# EAGLE library part MM74HC595M (library Fairchild_By_element14_Batch_1)
8-BIT SHIFT REGISTERS
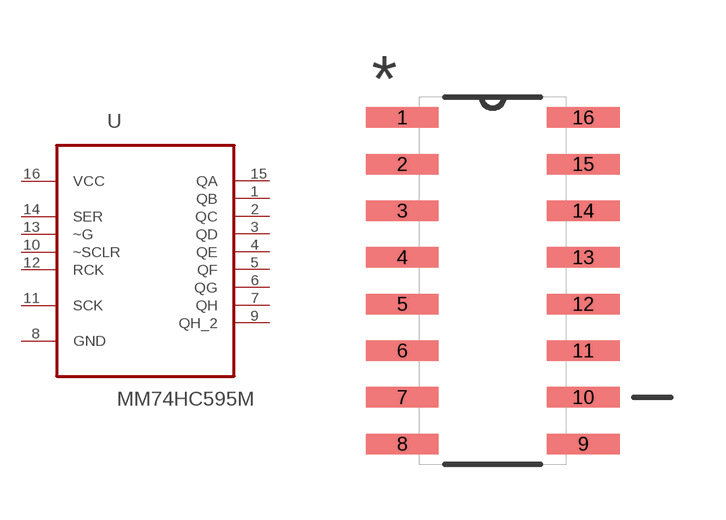
[diagram p301: symbol with the pads of SOIC127P600X175-16N; footprint SOIC127P600X175-16N]

Designator prefix U

## MM74HC595M (MPN: MM74HC595M; OC_FARNELL: 1013860; OC_NEWARK: 83K8586; PACKAGE: SOIC-16; SUPPLIER: Fairchild)  [SOIC127P600X175-16N]
1  QB  out
2  QC  out
3  QD  out
4  QE  out
5  QF  out
6  QG  out
7  QH  out
8  GND  pas
9  QH_2  out
10  ~SCLR  in
11  SCK  in
12  RCK  in
13  ~G  in
14  SER  in
15  QA  out
16  VCC  pwr

## Footprint SOIC127P600X175-16N (pad centres in mm)
smd 1.981 x 0.559: 1 -2.464,4.445; 2 -2.464,3.175; 3 -2.464,1.905; 4 -2.464,0.635; 5 -2.464,-0.635; 6 -2.464,-1.905; 7 -2.464,-3.175; 8 -2.464,-4.445; 9 2.464,-4.445; 10 2.464,-3.175; 11 2.464,-1.905; 12 2.464,-0.635; 13 2.464,0.635; 14 2.464,1.905; 15 2.464,3.175; 16 2.464,4.445